# EAGLE library part CC2531 (library X893)
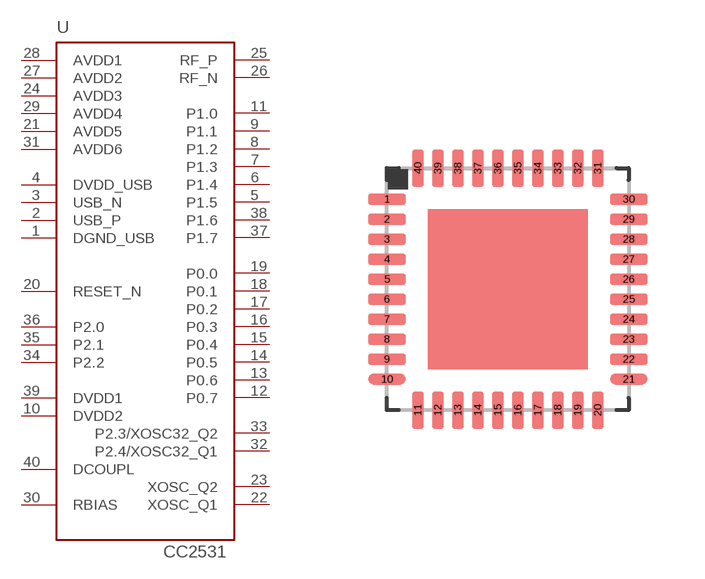
[diagram p52: symbol with the pads of QFN40-6X6; footprint QFN40-6X6]

Designator prefix U

## CC2531  [QFN40-6X6]
1  DGND_USB
2  USB_P
3  USB_N
4  DVDD_USB
5  P1.5
6  P1.4
7  P1.3
8  P1.2
9  P1.1
10  DVDD2  pas
11  P1.0
12  P0.7
13  P0.6
14  P0.5
15  P0.4
16  P0.3
17  P0.2
18  P0.1
19  P0.0
20  RESET_N  pas
21  AVDD5  pas
22  XOSC_Q1
23  XOSC_Q2
24  AVDD3  pas
25  RF_P  pas
26  RF_N  pas
27  AVDD2  pas
28  AVDD1  pas
29  AVDD4  pas
30  RBIAS
31  AVDD6  pas
32  P2.4/XOSC32_Q1
33  P2.3/XOSC32_Q2
34  P2.2
35  P2.1
36  P2.0
37  P1.7
38  P1.6
39  DVDD1  pas
40  DCOUPL  pas

## Footprint QFN40-6X6 (pad centres in mm)
RHA (S-PQFP-N40 6 x 6 mm Source: http://focus.ti.com/lit/ds/symlink/tps65020.pdf
smd 0.95 x 0.28: 1 -3.025,2.25; 2 -3.025,1.75; 3 -3.025,1.25; 4 -3.025,0.75; 5 -3.025,0.25; 6 -3.025,-0.25; 7 -3.025,-0.75; 8 -3.025,-1.25; 9 -3.025,-1.75; 10 -3.025,-2.25; 21 3.025,-2.25; 22 3.025,-1.75; 23 3.025,-1.25; 24 3.025,-0.75; 25 3.025,-0.25; 26 3.025,0.25; 27 3.025,0.75; 28 3.025,1.25; 29 3.025,1.75; 30 3.025,2.25
smd 0.28 x 0.95: 11 -2.25,-3.025; 12 -1.75,-3.025; 13 -1.25,-3.025; 14 -0.75,-3.025; 15 -0.25,-3.025; 16 0.25,-3.025; 17 0.75,-3.025; 18 1.25,-3.025; 19 1.75,-3.025; 20 2.25,-3.025; 31 2.25,3.025; 32 1.75,3.025; 33 1.25,3.025; 34 0.75,3.025; 35 0.25,3.025; 36 -0.25,3.025; 37 -0.75,3.025; 38 -1.25,3.025; 39 -1.75,3.025; 40 -2.25,3.025